# Altium footprint library Mylibr1.PcbLib: 92 footprints (part 6 of 6)
Each footprint in its own frame and in the unit in brackets; x right, y up, seen from the top. Pads: shape width x height; smd on the part's side, far side on the other; paste and mask are expansions set on the pad; w line width, h text height; cw(c..) or ccw(c..) is an arc to the next point about the centre after c.
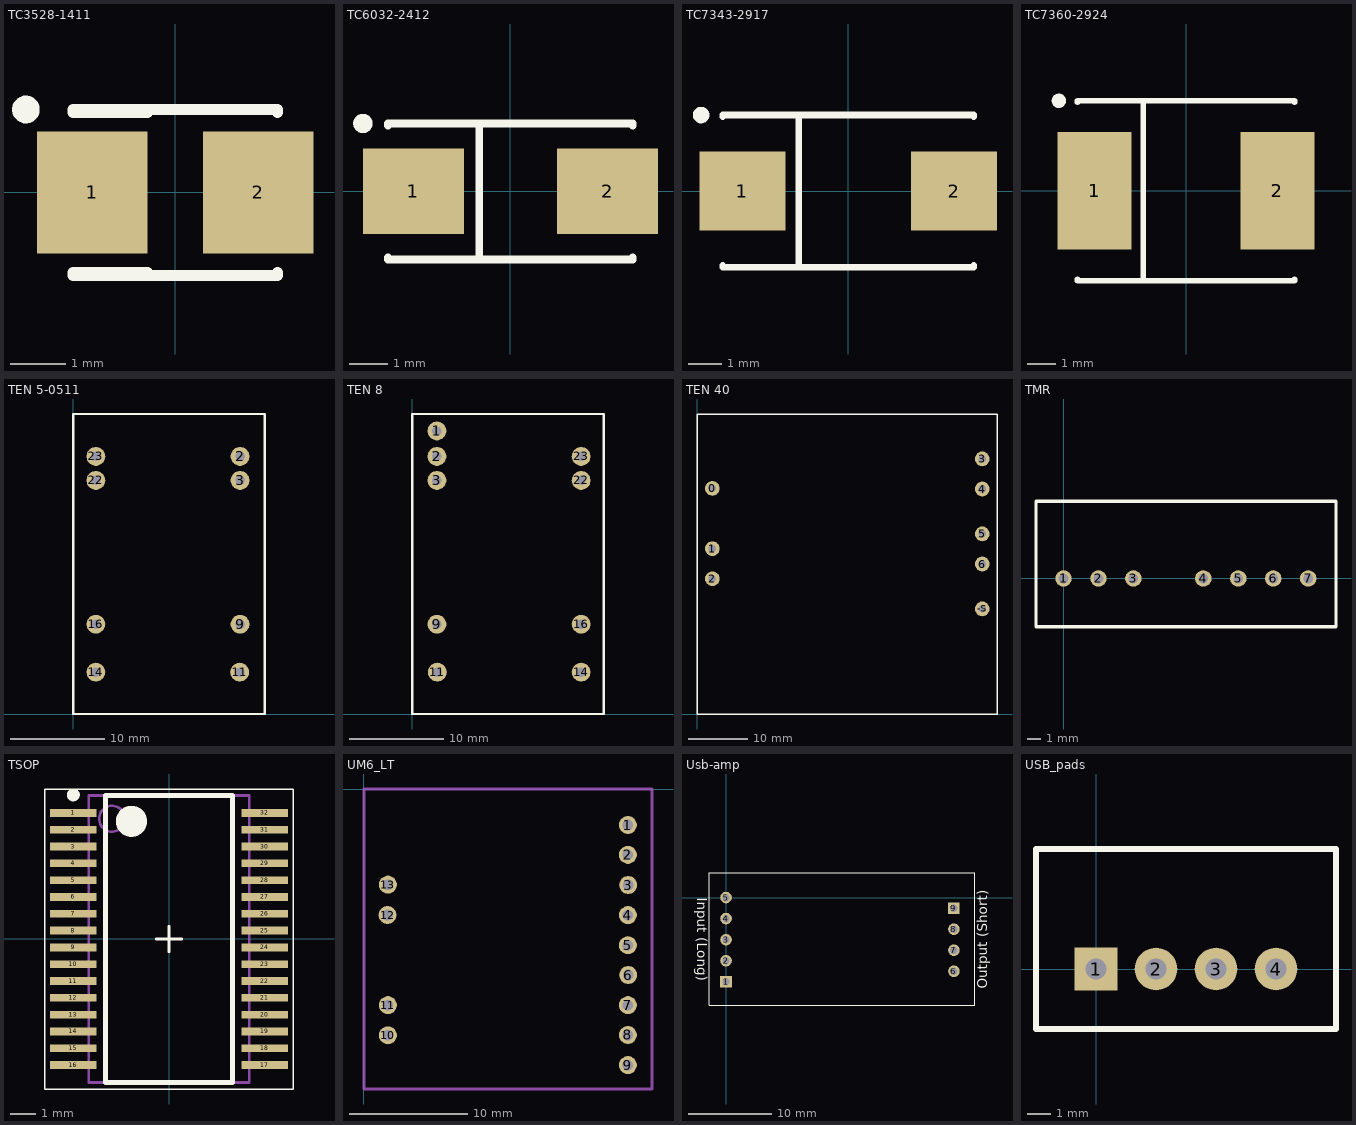
[diagram p5: the footprints below, top view; thin cyan lines are the x and y axes]

## TC3528-1411 [mm] "Capacitor, SM Tantalum; Body 3.5 x 2.8 mm (LxW typ)"
height 2.5
pads (2):
  rect 2x2.2 smd: 1(-1.5,0) 2(1.5,0)
Top Overlay:
  circle w0.25: c-2.7,1.5 r0.125
  lines w0.2: -1.85,-1.5 1.85,-1.5 1.85,-1.45 ; -1.85,-1.45 -0.5,-1.45 ; -1.85,1.45 -0.5,1.45 ; -1.85,1.5 1.85,1.5 1.85,1.45

## TC6032-2412 [mm] "Capacitor, SM Tantalum; Body 6.0 x 3.2 mm (LxW typ)"
height 3.4
pads (2):
  rect 2.6x2.2 smd: 1(-2.5,0) 2(2.5,0)
Top Overlay:
  circle w0.25: c-3.8,1.75 r0.125
  lines w0.2: -3.15,-1.7 -3.15,-1.75 3.15,-1.75 3.15,-1.7 ; -3.15,1.7 -3.15,1.75 3.15,1.75 3.15,1.7 ; -0.8,-1.75 -0.8,1.75

## TC7343-2917 [mm] "Capacitor, SM Tantalum; Body 7.3 x 4.3 mm (LxW typ)"
height 3.7
pads (2):
  rect 2.6x2.4 smd: 1(-3.2,0) 2(3.2,0)
Top Overlay:
  circle w0.25: c-4.45,2.3 r0.125
  lines w0.2: -3.8,-2.25 -3.8,-2.3 3.8,-2.3 3.8,-2.25 ; -3.8,2.25 -3.8,2.3 3.8,2.3 3.8,2.25 ; -1.5,-2.3 -1.5,2.3

## TC7360-2924 [mm] "Capacitor, SM Tantalum; Body 7.3 x 6.0 mm (LxW typ)"
height 3.8
pads (2):
  rect 2.6x4.1 smd: 1(-3.2,0) 2(3.2,0)
Top Overlay:
  circle w0.25: c-4.45,3.15 r0.125
  lines w0.2: -3.8,-3.1 -3.8,-3.15 3.8,-3.15 3.8,-3.1 ; -3.8,3.1 -3.8,3.15 3.8,3.15 3.8,3.1 ; -1.5,-3.15 -1.5,3.15

## TEN 5-0511 [mm]
height 10
pads (8):
  round 2 hole 1: 2(17.68,27.3) 3(17.68,24.76) 9(17.68,9.52) 11(17.64,4.44) 14(2.4,4.44) 16(2.4,9.52) 22(2.4,24.76) 23(2.4,27.3)
Top Overlay:
  lines w0.254: 0,0 20.3,0 20.3,31.8 0,31.8 0,0

## TEN 8 [mm]
pads (9):
  round 2 hole 1: 1(2.62,30) 2(2.62,27.3) 3(2.62,24.76) 9(2.62,9.52) 11(2.66,4.44) 14(17.9,4.44) 16(17.9,9.52) 22(17.9,24.76) 23(17.9,27.3)
Top Overlay:
  lines w0.254: 0,0 0,31.8 20.3,31.8 20.3,0 0,0

## TEN 40 [mm]
height 10
pads (8):
  round 2.5 hole 1.3: 0(2.6,38.2) 1(2.6,28) 2(2.6,22.9) 3(48.3,43.2) 4(48.3,38.1) 5(48.3,30.5) 6(48.3,25.4) -S(48.3,17.8)
Top Overlay:
  lines w0.254: 0,0 50.8,0 50.8,50.8 0,50.8 0,0

## TMR [mm] "DCDC-CONVERTOT"
pads (7):
  round 1.2 hole 0.7: 1(0,0) 2(2.54,0) 3(5.08,0) 4(10.16,0) 5(12.7,0) 6(15.24,0) 7(17.78,0)
Top Overlay:
  lines w0.254: -2,-3.5 19.8,-3.5 19.8,5.6 -2,5.6 -2,0 -2,-3.5

## TSOP [mm] "TSOP, 32-Leads, Body 11,00x6,10mm, Pitch 0,65mm, IPC Medium Density"
height 1.2
pads (32):
  rect 1.8x0.3 smd: 1(-3.7,4.875) 2(-3.7,4.225) 3(-3.7,3.575) 4(-3.7,2.925) 5(-3.7,2.275) 6(-3.7,1.625) 7(-3.7,0.975) 8(-3.7,0.325) 9(-3.7,-0.325) 10(-3.7,-0.975) 11(-3.7,-1.625) 12(-3.7,-2.275) 13(-3.7,-2.925) 14(-3.7,-3.575) 15(-3.7,-4.225) 16(-3.7,-4.875) 17(3.7,-4.875) 18(3.7,-4.225) 19(3.7,-3.575) 20(3.7,-2.925) 21(3.7,-2.275) 22(3.7,-1.625) 23(3.7,-0.975) 24(3.7,-0.325) 25(3.7,0.325) 26(3.7,0.975) 27(3.7,1.625) 28(3.7,2.275) 29(3.7,2.925) 30(3.7,3.575) 31(3.7,4.225) 32(3.7,4.875)
Top Overlay:
  circle w0.25: c-3.7,5.575 r0.125
  circle w0.6: c-1.45,4.55 r0.3
  lines w0.05: -4.8,-5.8 -4.8,5.8 4.8,5.8 4.8,-5.8 -4.8,-5.8
  lines w0.1: -0.5,0 0.5,0 ; 0,-0.5 0,0.5
  lines w0.2: -2.45,-5.55 -2.45,5.55 2.45,5.55 2.45,-5.55 -2.45,-5.55
Mechanical 13:
  circle w0.1: c-2.2,4.65 r0.5
  lines w0.1: -3.1,-5.55 -3.1,5.55 3.1,5.55 3.1,-5.55 -3.1,-5.55
3D body: height 1.2, standoff 0.1, extent -3.1,-5.55 3.1,5.55

## UM6_LT [mil]
pads (13):
  round 60 hole 35.43: 1(879.92,-120) 2(879.92,-219.49) 3(880.91,-320) 4(880,-420.28) 5(880,-520.67) 6(880.91,-620) 7(879.92,-720.47) 8(880,-819.88) 9(879.92,-920.28) 10(80,-820.87) 11(80,-720.47) 12(78.74,-420) 13(80,-318.9)
Mechanical 1:
  lines w10: 960,-1000 0,-1000 0,0 960,0 960.63,-1000
  text ".Designator" at 78.74,-125.98 h60
3D body "Сборка_2.STEP": height 472.44, standoff -15.75, extent 0,-1000 959.84,0

## Usb-amp [mm]
pads (9):
  rect 1.4x1.4 hole 0.9: 1(0,-10.16) 9(27.5,-1.27)
  round 1.4 hole 0.9: 2(0,-7.62) 3(0,-5.08) 4(0,-2.54) 5(0,0) 6(27.5,-8.89) 7(27.5,-6.35) 8(27.5,-3.81)
Top Overlay:
  lines w0.15: -2,-13 -2,3 30,3 30,-13 -2,-13
  text "Output (Short)" at 31.5,-11 h1.2
  text "Input (Long)" at -3.5,0 h1.2

## USB_pads [mm]
height 7
pads (4):
  rect 1.8x1.8 hole 0.9: 1(0,0)
  round 1.8 hole 0.9: 2(2.54,0) 3(5.08,0) 4(7.62,0)
Top Overlay:
  lines w0.254: -2.54,-2.54 -2.54,5.08 10.16,5.08 10.16,-2.54 -2.54,-2.54